# Altium footprint library TMDE_REV1.0.PcbLib: 84 footprints (part 3 of 6)
Each footprint in its own frame and in the unit in brackets; x right, y up, seen from the top. Pads: shape width x height; smd on the part's side, far side on the other; paste and mask are expansions set on the pad; w line width, h text height; cw(c..) or ccw(c..) is an arc to the next point about the centre after c.
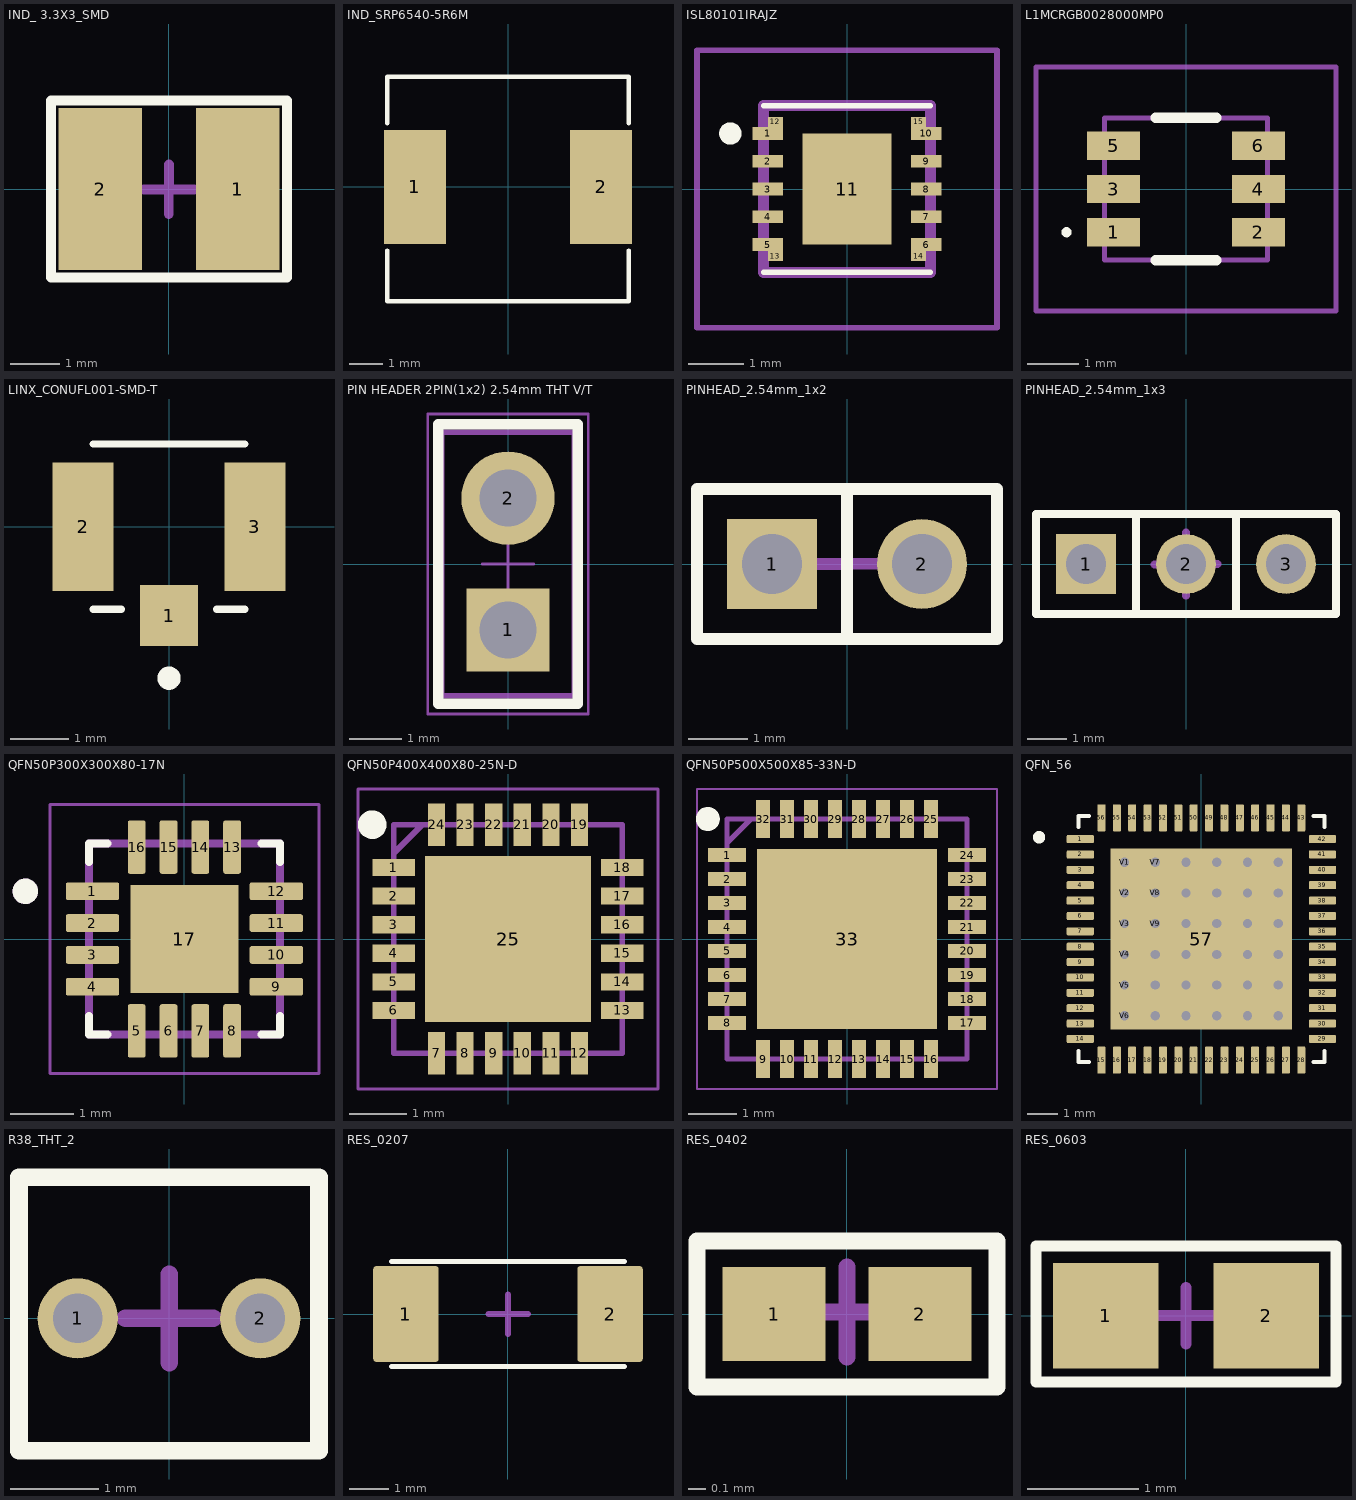
[diagram p2: the footprints below, top view; thin cyan lines are the x and y axes]

## IND_ 3.3X3_SMD [mm]
pads (2):
  rect 1.7x3.3 smd: 1(1.4,0) 2(-1.4,0)
Top Overlay:
  lines w0.2: -2.4,-1.8 2.4,-1.8 2.4,1.8 -2.4,1.8 -2.4,-1.8
Mechanical 16:
  lines w0.2: -0.506,-0.007 -0.006,-0.007 -0.006,-0.507 ; 0,0 0,0.5 ; 0.006,-0.011 0.506,-0.011
3D body "step_temp.STEP": height 1.2, standoff 0, extent -1.5,-1.6 1.5,1.4

## IND_SRP6540-5R6M [mm]
pads (2):
  rect 1.85x3.4 smd: 1(-2.775,0) 2(2.775,0)
Top Overlay:
  lines w0.127: -3.6,-1.9 -3.6,-3.416 3.6,-3.416 3.6,-1.9 ; -3.6,1.9 -3.6,3.289 3.6,3.289 3.6,1.9
3D body "SRR6040A.STP": height 3.71, standoff 0, extent -3.287,-3.373 3.313,3.227

## ISL80101IRAJZ [mm]
pads (15):
  rect 0.55x0.23 smd: 1(-1.425,1) 2(-1.425,0.5) 3(-1.425,0) 4(-1.425,-0.5) 5(-1.425,-1) 6(1.425,-1) 7(1.425,-0.5) 8(1.425,0) 9(1.425,0.5) 10(1.425,1)
  rect 1.6x2 smd: 11(0,0)
  rect 0.275x0.185 smd: 12(-1.288,1.207) 13(-1.288,-1.207) 14(1.288,-1.207) 15(1.288,1.207)
Top Overlay:
  lines w0.1: -1.5,-1.5 1.5,-1.5 ; -1.5,1.5 1.5,1.5
  lines w0.2: -2.1,0.9 ccw(c-2.1,1) -2.1,1.1 ccw(c-2.1,1) -2.1,0.9
Mechanical 13:
  lines w0.2: -1.5,-1.5 -1.5,1.5 1.5,1.5 1.5,-1.5 -1.5,-1.5
Mechanical 15:
  lines w0.1: -2.7,-2.5 -2.7,2.5 2.7,2.5 2.7,-2.5 -2.7,-2.5
3D body "ISL80113IRAJZ.stp": height 1, standoff 0, extent -1.505,-1.5 1.505,1.5

## L1MCRGB0028000MP0 [mm]
pads (6):
  rect 1.05x0.56 smd: 1(-1.425,-0.85) 2(1.425,-0.85) 3(-1.425,0) 4(1.425,0) 5(-1.425,0.85) 6(1.425,0.85)
Top Overlay:
  lines w0.1: -2.4,-0.85 cw(c-2.35,-0.85) -2.3,-0.85 cw(c-2.35,-0.85) -2.4,-0.85
  lines w0.2: -0.6,-1.4 0.6,-1.4 ; -0.6,1.4 0.6,1.4
Mechanical 13:
  lines w0.1: -1.6,-1.4 -1.6,1.4 1.6,1.4 1.6,-1.4 -1.6,-1.4
Mechanical 15:
  lines w0.1: -2.95,-2.4 -2.95,2.4 2.95,2.4 2.95,-2.4 -2.95,-2.4
3D body "L1MC-RGB0028000MP0.stp": height 1.85, standoff 0.05, extent -1.75,-1.4 1.75,1.4

## LINX_CONUFL001-SMD-T [mm]
pads (3):
  rect 1x1.05 smd: 1(0,-1.525)
  rect 1.05x2.2 smd: 2(-1.475,0) 3(1.475,0)
Top Overlay:
  circle w0.2: c0,-2.6 r0.1
  lines w0.127: -1.3,-1.42 -0.82,-1.42 ; -1.3,1.42 1.3,1.42 ; 0.82,-1.42 1.3,-1.42
3D body "step_temp.STEP": height 1.3, standoff 0, extent -1.5,-1.55 1.5,1.55

## PIN HEADER 2PIN(1x2) 2.54mm THT V/T [mm]
pads (2):
  rect 1.6x1.6 hole 1.1: 1(0,-1.27)
  round 1.8 hole 1.1: 2(0,1.27)
Top Overlay:
  lines w0.2: -1.345,-2.69 -1.345,2.69 1.345,2.69 1.345,-2.69 -1.345,-2.69
Mechanical 13:
  lines w0.1: -1.27,-2.54 -1.27,2.54 1.27,2.54 1.27,-2.54 -1.27,-2.54
Mechanical 15:
  lines w0.05: -0.5,0 0.5,0 ; 0,-0.5 0,0.5 ; -1.545,-2.89 -1.545,2.89 1.545,2.89 1.545,-2.89 -1.545,-2.89
3D body "61300211121.stp": height 8.57, standoff -2.97, extent -1.27,-2.54 1.27,2.54

## PINHEAD_2.54mm_1x2 [mil]
pads (2):
  rect 60x60 hole 40: 1(-50,0)
  round 60 hole 40: 2(50,0)
Top Overlay:
  lines w7.87: 0,-50 0,50 ; 0,-50 0,50 ; 0,-50 -100,-50 -100,50 0,50 ; 0,-50 100,-50 100,50 0,50
Mechanical 16:
  lines w7.87: -19.56,0 0.12,0 ; 0,-19.56 0,0.12 19.68,0.12 ; 0,0 0,19.68
3D body "User Library-HDR1X1 Rectangular Straight.step": height 339.58, standoff -124.98, extent -103.15,-53.15 3.15,53.15
3D body "User Library-HDR1X1 Rectangular Straight.step": height 339.58, standoff -124.98, extent -3.15,-53.14 103.15,53.15

## PINHEAD_2.54mm_1x3 [mil]
pads (3):
  rect 60x60 hole 40: 1(-100,0)
  round 60 hole 40: 2(0,0) 3(100,0)
Top Overlay:
  lines w7.87: -50,-50 -150,-50 -150,50 -50,50 ; -50,-50 -50,50 ; -50,-50 -50,50 ; -50,-50 50,-50 ; -50,50 50,50 ; 50,-50 150,-50 150,50 50,50 ; 50,-50 50,50 ; 50,-50 50,50
Mechanical 16:
  lines w7.87: -31.49,-0.47 0.01,-0.47 ; 0.01,-31.8 0.01,-0.3 ; 0.01,-0.13 31.51,-0.13 ; 0,0 0,31.5
3D body "User Library-HDR1X1 Rectangular Straight.step": height 339.58, standoff -124.98, extent 46.85,-53.15 153.15,53.15
3D body "User Library-HDR1X1 Rectangular Straight.step": height 339.58, standoff -124.98, extent -153.15,-53.15 -46.85,53.15
3D body "User Library-HDR1X1 Rectangular Straight.step": height 339.58, standoff -124.98, extent -53.15,-53.14 53.15,53.15

## QFN50P300X300X80-17N [mm]
height 0.8
pads (17):
  rrect25% 0.84x0.28 smd: 1(-1.445,0.75) 2(-1.445,0.25) 3(-1.445,-0.25) 4(-1.445,-0.75) 9(1.445,-0.75) 10(1.445,-0.25) 11(1.445,0.25) 12(1.445,0.75)
  rrect25% 0.28x0.84 smd: 5(-0.75,-1.445) 6(-0.25,-1.445) 7(0.25,-1.445) 8(0.75,-1.445) 13(0.75,1.445) 14(0.25,1.445) 15(-0.25,1.445) 16(-0.75,1.445)
  rect 1.7x1.7 smd paste-0.31: 17(0,0)
Top Overlay:
  circle w0.2: c-2.5,0.75 r0.1
  lines w0.127: -1.5,-1.21 -1.5,-1.5 -1.21,-1.5 ; -1.5,1.21 -1.5,1.5 -1.21,1.5 ; 1.21,-1.5 1.5,-1.5 1.5,-1.21 ; 1.21,1.5 1.5,1.5 1.5,1.21
Mechanical 13:
  circle w0.2: c-2.5,0.75 r0.1
  lines w0.127: -1.5,-1.5 -1.5,1.5 1.5,1.5 1.5,-1.5 -1.5,-1.5
Mechanical 15:
  lines w0.05: -2.115,-2.115 -2.115,2.115 2.115,2.115 2.115,-2.115 -2.115,-2.115
3D body "step_temp.STEP": height 0.8, standoff 0, extent -1.5,-1.5 1.5,1.5

## QFN50P400X400X80-25N-D [mm]
pads (25):
  rect 0.75x0.3 smd: 1(-2,1.25) 2(-2,0.75) 3(-2,0.25) 4(-2,-0.25) 5(-2,-0.75) 6(-2,-1.25) 13(2,-1.25) 14(2,-0.75) 15(2,-0.25) 16(2,0.25) 17(2,0.75) 18(2,1.25)
  rect 0.3x0.75 smd: 7(-1.25,-2) 8(-0.75,-2) 9(-0.25,-2) 10(0.25,-2) 11(0.75,-2) 12(1.25,-2) 19(1.25,2) 20(0.75,2) 21(0.25,2) 22(-0.25,2) 23(-0.75,2) 24(-1.25,2)
  rect 2.9x2.9 smd: 25(0,0)
Top Overlay:
  circle w0.25: c-2.375,2 r0.125
Mechanical 13:
  lines w0.1: -2,1.5 -1.5,2 ; -2,-2 -2,2 2,2 2,-2 -2,-2
Mechanical 15:
  lines w0.05: -2.625,-2.625 -2.625,2.625 2.625,2.625 2.625,-2.625 -2.625,-2.625
3D body "CAT4016HV6-GT2.stp": height 0.8, standoff 0, extent -2.05,-2.05 2.05,2.05

## QFN50P500X500X85-33N-D [mm]
pads (33):
  rect 0.8x0.3 smd: 1(-2.5,1.75) 2(-2.5,1.25) 3(-2.5,0.75) 4(-2.5,0.25) 5(-2.5,-0.25) 6(-2.5,-0.75) 7(-2.5,-1.25) 8(-2.5,-1.75) 17(2.5,-1.75) 18(2.5,-1.25) 19(2.5,-0.75) 20(2.5,-0.25) 21(2.5,0.25) 22(2.5,0.75) 23(2.5,1.25) 24(2.5,1.75)
  rect 0.3x0.8 smd: 9(-1.75,-2.5) 10(-1.25,-2.5) 11(-0.75,-2.5) 12(-0.25,-2.5) 13(0.25,-2.5) 14(0.75,-2.5) 15(1.25,-2.5) 16(1.75,-2.5) 25(1.75,2.5) 26(1.25,2.5) 27(0.75,2.5) 28(0.25,2.5) 29(-0.25,2.5) 30(-0.75,2.5) 31(-1.25,2.5) 32(-1.75,2.5)
  rect 3.75x3.75 smd: 33(0,0)
Top Overlay:
  circle w0.25: c-2.9,2.5 r0.125
Mechanical 13:
  lines w0.1: -2.5,2 -2,2.5 ; -2.5,-2.5 2.5,-2.5 2.5,2.5 -2.5,2.5 -2.5,-2.5
Mechanical 15:
  lines w0.05: -3.125,-3.125 3.125,-3.125 3.125,3.125 -3.125,3.125 -3.125,-3.125
3D body "PCA8561AHN_AY.stp": height 0.86, standoff 0.01, extent -2.56,-2.56 2.56,2.56

## QFN_56 [mm]
pads (93):
  rrect25% 0.88x0.26 smd: 1(-3.94,3.25) 2(-3.94,2.75) 3(-3.94,2.25) 4(-3.94,1.75) 5(-3.94,1.25) 6(-3.94,0.75) 7(-3.94,0.25) 8(-3.94,-0.25) 9(-3.94,-0.75) 10(-3.94,-1.25) 11(-3.94,-1.75) 12(-3.94,-2.25) 13(-3.94,-2.75) 14(-3.94,-3.25) 29(3.94,-3.25) 30(3.94,-2.75) 31(3.94,-2.25) 32(3.94,-1.75) 33(3.94,-1.25) 34(3.94,-0.75) 35(3.94,-0.25) 36(3.94,0.25) 37(3.94,0.75) 38(3.94,1.25) 39(3.94,1.75) 40(3.94,2.25) 41(3.94,2.75) 42(3.94,3.25)
  rrect25% 0.26x0.88 smd: 15(-3.25,-3.94) 16(-2.75,-3.94) 17(-2.25,-3.94) 18(-1.75,-3.94) 19(-1.25,-3.94) 20(-0.75,-3.94) 21(-0.25,-3.94) 22(0.25,-3.94) 23(0.75,-3.94) 24(1.25,-3.94) 25(1.75,-3.94) 26(2.25,-3.94) 27(2.75,-3.94) 28(3.25,-3.94) 43(3.25,3.94) 44(2.75,3.94) 45(2.25,3.94) 46(1.75,3.94) 47(1.25,3.94) 48(0.75,3.94) 49(0.25,3.94) 50(-0.25,3.94) 51(-0.75,3.94) 52(-1.25,3.94) 53(-1.75,3.94) 54(-2.25,3.94) 55(-2.75,3.94) 56(-3.25,3.94)
  rect 5.9x5.9 smd paste-4: 57(0,0)
  round 0.4 hole 0.3: V1(-2.5,2.5) V2(-2.5,1.5) V3(-2.5,0.5) V4(-2.5,-0.5) V5(-2.5,-1.5) V6(-2.5,-2.5) V7(-1.5,2.5) V8(-1.5,1.5) V9(-1.5,0.5) V10(-1.5,-0.5) V11(-1.5,-1.5) V12(-1.5,-2.5) V13(-0.5,2.5) V14(-0.5,1.5) V15(-0.5,0.5) V16(-0.5,-0.5) V17(-0.5,-1.5) V18(-0.5,-2.5) V19(0.5,2.5) V20(0.5,1.5) V21(0.5,0.5) V22(0.5,-0.5) V23(0.5,-1.5) V24(0.5,-2.5) V25(1.5,2.5) V26(1.5,1.5) V27(1.5,0.5) V28(1.5,-0.5) V29(1.5,-1.5) V30(1.5,-2.5) V31(2.5,2.5) V32(2.5,1.5) V33(2.5,0.5) V34(2.5,-0.5) V35(2.5,-1.5) V36(2.5,-2.5)
Top Overlay:
  circle w0.2: c-5.28,3.31 r0.1
  lines w0.127: -4,-3.65 -4,-4 -3.65,-4 ; -4,3.65 -4,4 -3.65,4 ; 3.65,-4 4,-4 4,-3.65 ; 3.65,4 4,4 4,3.65
Top Paste:
  region: 2.7,1.5 1.5,1.5 1.5,2.7 2.7,2.7
  region: 2.7,0.1 1.5,0.1 1.5,1.3 2.7,1.3
  region: 2.7,-1.3 1.5,-1.3 1.5,-0.1 2.7,-0.1
  region: 2.7,-2.7 1.5,-2.7 1.5,-1.5 2.7,-1.5
  region: -1.5,-2.7 -2.7,-2.7 -2.7,-1.5 -1.5,-1.5
  region: 1.3,-2.7 0.1,-2.7 0.1,-1.5 1.3,-1.5
  region: -0.1,-2.7 -1.3,-2.7 -1.3,-1.5 -0.1,-1.5
  region: 1.3,1.5 0.1,1.5 0.1,2.7 1.3,2.7
  region: -0.1,1.5 -1.3,1.5 -1.3,2.7 -0.1,2.7
  region: -1.5,1.5 -2.7,1.5 -2.7,2.7 -1.5,2.7
  region: -1.5,0.1 -2.7,0.1 -2.7,1.3 -1.5,1.3
  region: -1.5,-1.3 -2.7,-1.3 -2.7,-0.1 -1.5,-0.1
  region: 1.3,-1.3 0.1,-1.3 0.1,-0.1 1.3,-0.1
  region: -0.1,-1.3 -1.3,-1.3 -1.3,-0.1 -0.1,-0.1
  region: 1.3,0.1 0.1,0.1 0.1,1.3 1.3,1.3
  region: -0.1,0.1 -1.3,0.1 -1.3,1.3 -0.1,1.3
3D body "LAN9303I-ABZJ-TR.STEP": height 1, standoff 0, extent -4,-4 4,4

## R38_THT_2 [mm]
pads (2):
  round 0.91 hole 0.56: 1(-1.039,-0.002) 2(1.031,-0.002)
Top Overlay:
  lines w0.2: -1.704,-1.502 -1.704,1.598 1.696,1.598 1.696,-1.502 -1.704,-1.502
Mechanical 16:
  lines w0.2: -0.497,-0.002 0.003,-0.002 ; -0.004,-0.002 0.496,-0.002 ; -0.001,-0.502 -0.001,-0.002 ; 0,0 0,0.5
3D body "AB38T-32.768KHZ--3DModel-STEP-400430.STEP": height 9.3, standoff -8, extent -1.628,-1.602 1.549,1.598

## RES_0207 [mm]
pads (2):
  rrect10% 1.66x2.43 smd: 1(-2.585,0) 2(2.585,0)
Top Overlay:
  lines w0.127: -2.95,-1.33 2.95,-1.33 ; -2.95,1.33 2.95,1.33
Mechanical 16:
  lines w0.152: -0.496,-0.001 0.004,-0.001 ; 0,0 0,0.5 ; 0.004,-0.501 0.004,-0.001 ; 0.504,-0.001 0.004,-0.001
3D body "2-1879283-8.stp": height 2.3, standoff 0.1, extent -2.95,-1.11 2.95,1.11

## RES_0402 [mm]
pads (2):
  rect 0.6x0.55 smd mask+0.102: 1(-0.425,0) 2(0.425,0)
Top Overlay:
  lines w0.1: -0.875,-0.425 0.875,-0.425 0.875,0.425 -0.875,0.425 -0.875,-0.425
Mechanical 16:
  lines w0.1: -0.262,0.013 0.263,0.013 ; 0,-0.25 0,0.275
3D body "SW3dPS-d0402h025.STEP": height 0.25, standoff 0, extent -0.5,-0.25 0.5,0.25

## RES_0603 [mm]
pads (2):
  rect 0.95x0.95 smd mask+0.102: 1(-0.725,0) 2(0.725,0)
Top Overlay:
  lines w0.1: -1.355,-0.601 -1.355,0.631 1.355,0.631 1.355,-0.601 -1.355,-0.601
Mechanical 16:
  lines w0.1: -0.254,0 0.254,0 ; 0,-0.254 0,0.254
3D body "User Library-V0603HD.STEP": height 0.9, standoff 0, extent -0.8,-0.4 0.8,0.4